# EAGLE library part M36 (library custom-connectors)
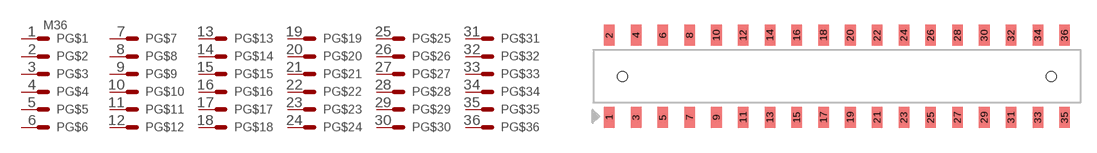
[diagram p9: symbol with the pads of NPPC182KFMS-RC; footprint NPPC182KFMS-RC]

Designator prefix P; gates G$1=MV G$2=M G$3=M G$4=M G$5=M G$6=M G$7=M G$8=M G$9=M G$10=M G$11=M G$12=M G$13=M G$14=M G$15=M G$16=M G$17=M G$18=M G$19=M G$20=M G$21=M G$22=M G$23=M G$24=M G$25=M G$26=M G$27=M G$28=M G$29=M G$30=M G$31=M G$32=M G$33=M G$34=M G$35=M G$36=M

## M36_1.27_SMT (DIGI-KEY: S5727-ND)  [NPPC182KFMS-RC]
1  G$1:S  pas
2  G$2:S  pas
3  G$3:S  pas
4  G$4:S  pas
5  G$5:S  pas
6  G$6:S  pas
7  G$7:S  pas
8  G$8:S  pas
9  G$9:S  pas
10  G$10:S  pas
11  G$11:S  pas
12  G$12:S  pas
13  G$13:S  pas
14  G$14:S  pas
15  G$15:S  pas
16  G$16:S  pas
17  G$17:S  pas
18  G$18:S  pas
19  G$19:S  pas
20  G$20:S  pas
21  G$21:S  pas
22  G$22:S  pas
23  G$23:S  pas
24  G$24:S  pas
25  G$25:S  pas
26  G$26:S  pas
27  G$27:S  pas
28  G$28:S  pas
29  G$29:S  pas
30  G$30:S  pas
31  G$31:S  pas
32  G$32:S  pas
33  G$33:S  pas
34  G$34:S  pas
35  G$35:S  pas
36  G$36:S  pas

## Footprint NPPC182KFMS-RC (pad centres in mm)
smd 1 x 2: 1 -21.59,-3.9; 2 -21.59,3.9; 3 -19.05,-3.9; 4 -19.05,3.9; 5 -16.51,-3.9; 6 -16.51,3.9; 7 -13.97,-3.9; 8 -13.97,3.9; 9 -11.43,-3.9; 10 -11.43,3.9; 11 -8.89,-3.9; 12 -8.89,3.9; 13 -6.35,-3.9; 14 -6.35,3.9; 15 -3.81,-3.9; 16 -3.81,3.9; 17 -1.27,-3.9; 18 -1.27,3.9; 19 1.27,-3.9; 20 1.27,3.9; 21 3.81,-3.9; 22 3.81,3.9; 23 6.35,-3.9; 24 6.35,3.9; 25 8.89,-3.9; 26 8.89,3.9; 27 11.43,-3.9; 28 11.43,3.9; 29 13.97,-3.9; 30 13.97,3.9; 31 16.51,-3.9; 32 16.51,3.9; 33 19.05,-3.9; 34 19.05,3.9; 35 21.59,-3.9; 36 21.59,3.9
hole 0.95 at -20.32,0
hole 0.95 at 20.32,0